# Altium schematic symbol library SCH - LOGO - LAGENFESNSTER 2.Schlib: 1 symbol
Pins are listed as number, name and electrical type; pins without a type are passive.

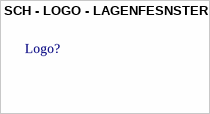
[diagram p0: symbol SCH - LOGO - LAGENFESNSTER 2]

## SCH - LOGO - LAGENFESNSTER 2
designator Logo?  (no BOM)
footprint Lagenfenster_2Layer